# EAGLE library part SN74LVC1T45 (library dan-translate)
SN74LVC1T45 Single-bit dual-supply translator 1.8v-5.0v independent range for each port When DIR is 0, B -> A; otherwise A -> B DIR is referenced to VCCA
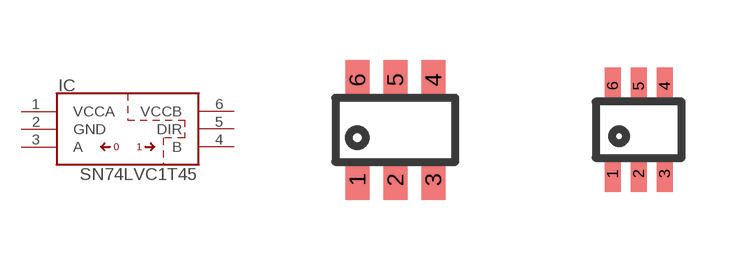
[diagram p0: symbol with the pads of SOT23-6; footprints SOT23-6, SC70]

Designator prefix IC

## SN74LVC1T45DBVR  [SOT23-6]
1  VCCA  pas
2  GND  pas
3  A
4  B
5  DIR  in
6  VCCB  pas

## SN74LVC1T45DCKR  [SC70]
Pads as for SOT23-6

## Footprint SOT23-6 (pad centres in mm)
SOT23-6 From http://www.ti.com/lit/gpn/sn74lvc1t45
smd 0.6 x 1: 1 -0.95,-1.25; 2 0,-1.25; 3 0.95,-1.25; 4 0.95,1.25; 5 0,1.25; 6 -0.95,1.25

## Footprint SC70 (pad centres in mm)
SC70 From http://focus.ti.com/lit/ds/symlink/sn74lvc1t45.pdf
smd 0.4 x 0.9: 1 -0.65,-1.1; 2 0,-1.1; 3 0.65,-1.1; 4 0.65,1.1; 5 0,1.1; 6 -0.65,1.1